# EAGLE library part LSM303DLHC (library MTS-OTR_Custom)
3 Axis Magnetometer and 3 Axis Accelerometer Module
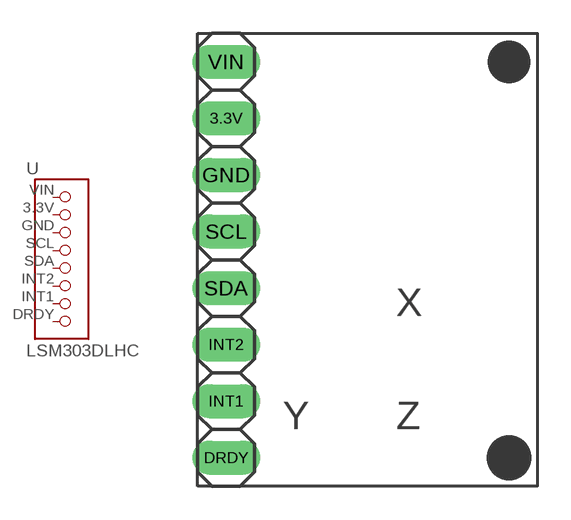
[diagram p24: symbol with the pads of LSM303DLHC; footprint LSM303DLHC]

Designator prefix -

## LSM303DLHC  [LSM303DLHC]
3.3V  3.3V  pas
DRDY  DRDY  pas
GND  GND  pas
INT1  INT1  pas
INT2  INT2  pas
SCL  SCL  pas
SDA  SDA  pas
VIN  VIN  pas

## Footprint LSM303DLHC (pad centres in mm)
drill 1.016 long: 3.3V -2.54,5.08; DRDY -2.54,-10.16; GND -2.54,2.54; INT1 -2.54,-7.62; INT2 -2.54,-5.08; SCL -2.54,0; SDA -2.54,-2.54; VIN -2.54,7.62